# Altium schematic symbol library TUSB212I.SchLib: 1 symbol
Pins are listed as number, name and electrical type; pins without a type are passive.

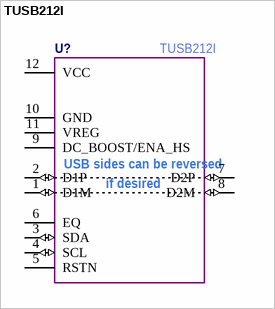
[diagram p0: symbol TUSB212I]

## TUSB212I
designator U?
Manufacturer Part Number: TUSB212I
pins: 1 D1M (io), 2 D1P (io), 3 SDA (io), 4 SCL (io), 5 RSTN, 6 EQ, 7 D2P (io), 8 D2M (io), 9 DC_BOOST/ENA_HS, 10 GND, 11 VREG, 12 VCC
text: USB sides can be reversed; if desired